# Altium footprint library KC2520Z800000C1KX00.PcbLib: 1 footprints
Each footprint in its own frame and in the unit in brackets; x right, y up, seen from the top. Pads: shape width x height; smd on the part's side, far side on the other; paste and mask are expansions set on the pad; w line width, h text height; cw(c..) or ccw(c..) is an arc to the next point about the centre after c.
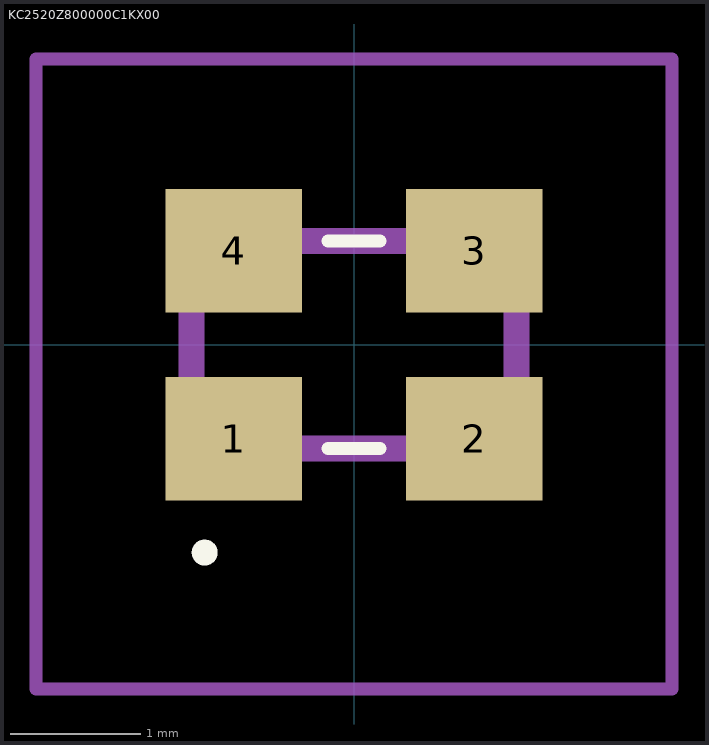
[diagram p0: the footprint, top view; thin cyan lines are the x and y axes]

## KC2520Z800000C1KX00 [mm]
pads (4):
  rect 1.05x0.95 smd: 1(-0.925,-0.725) 2(0.925,-0.725) 3(0.925,0.725) 4(-0.925,0.725)
Top Overlay:
  lines w0.1: -0.2,-0.8 0.2,-0.8 ; -0.2,0.8 0.2,0.8 ; -1.2,-1.6 -1.2,-1.6 ; -1.2,-1.6 ccw(c-1.15,-1.6) -1.1,-1.6 ; -1.2,-1.6 cw(c-1.15,-1.6) -1.1,-1.6 ; -1.1,-1.6 -1.1,-1.6
Mechanical 15:
  lines w0.2: -1.25,-0.8 1.25,-0.8 1.25,0.8 -1.25,0.8 -1.25,-0.8
Mechanical 20:
  lines w0.1: -2.45,-2.65 2.45,-2.65 2.45,2.2 -2.45,2.2 -2.45,-2.65